# EAGLE library part JST-PH_8-PIN_HEADER (library SRG)
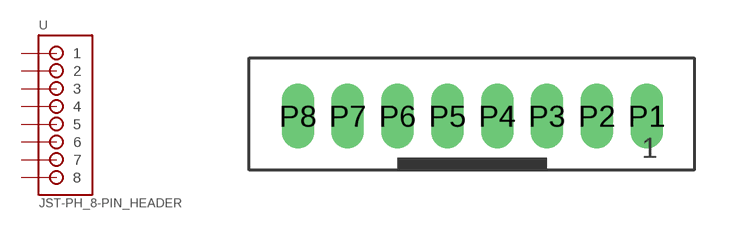
[diagram p12: symbol with the pads of JST_B8B-PH_HEADER; footprint JST_B8B-PH_HEADER]

Designator prefix -

## JST-PH_8-PIN_HEADER  [JST_B8B-PH_HEADER]
P1  1
P2  2
P3  3
P4  4
P5  5
P6  6
P7  7
P8  8

## Footprint JST_B8B-PH_HEADER (pad centres in mm)
5-pin JST PH Shrouded Header 2.0mm pitch P/N B5B-PH-K-S. Mating plug PHR-5
drill 0.8 long: P1 7,0.048; P2 5,0.048; P3 3,0.048; P4 1,0.048; P5 -1,0.048; P6 -3,0.048; P7 -5,0.048; P8 -7,0.048